# EAGLE library part HM2100NL (library HM2100NL)
Audio Transformers / Signal Transformers MDL DUAL XFMR-CMC AEC-Q200 Source: Datasheet <https://productfinder.pulseeng.com/doc_type/WEB301/doc_num/HM2100NL/doc_part/HM2100NL.pdf>
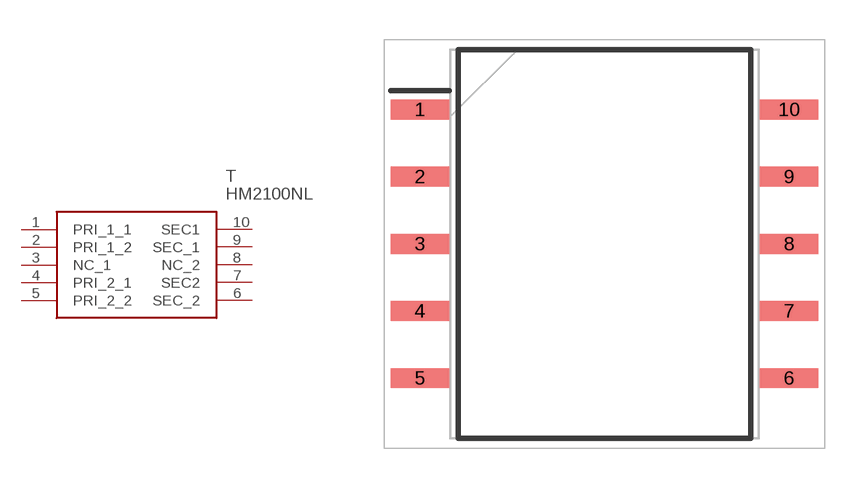
[diagram p0: symbol with the pads of SOP254P1493X345-10N; footprint SOP254P1493X345-10N]

Designator prefix T

## HM2100NL (Arrow_Part_Number: HM2100NL; Arrow_Price-Stock: https://www.arrow.com/en/products/hm2100nl/pulse-electronics-corporation; Description: Audio Transformers / Signal Transformers MDL DUAL XFMR-CMC AEC-Q200; Height: 3.45mm; Manufacturer_Name: Pulse; Manufacturer_Part_Number: HM2100NL; Mouser_Part_Number: 673-HM2100NL; Mouser_Price-Stock: https://www.mouser.co.uk/ProductDetail/Pulse-Electronics/HM2100NL?qs=1mbolxNpo8dwDSBbBgCdLQ%3D%3D)  [SOP254P1493X345-10N]
1  PRI_1_1
2  PRI_1_2
3  NC_1
4  PRI_2_1
5  PRI_2_2
6  SEC_2
7  SEC2
8  NC_2
9  SEC_1
10  SEC1

## Footprint SOP254P1493X345-10N (pad centres in mm)
FMR-CMC AEC-Q200
smd 2.2 x 0.75: 1 -6.975,5.08; 2 -6.975,2.54; 3 -6.975,0; 4 -6.975,-2.54; 5 -6.975,-5.08; 6 6.975,-5.08; 7 6.975,-2.54; 8 6.975,0; 9 6.975,2.54; 10 6.975,5.08